# Altium schematic symbol library TS5A3359DCUT.SchLib: 1 symbol
Pins are listed as number, name and electrical type; pins without a type are passive.

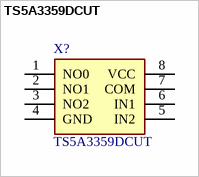
[diagram p0: symbol TS5A3359DCUT]

## TS5A3359DCUT
designator X?
Texas Instruments TS5A3359DCUT, Analogue Switch Single SP3T, 3.3 V, 5 V, 8-Pin VSSOP; Geometry.Height: 0.9mm; Mouser Part Number: 595-TS5A3359DCUT; Mouser Price/Stock: https://www.mouser.co.uk/ProductDetail/Texas-Instruments/TS5A3359DCUT?qs=0O%2FZFlpUpJWZahDSKJBJfQ%3D%3D; Manufacturer_Name: Texas Instruments; Manufacturer_Part_Number: TS5A3359DCUT; Datasheet Link: http://www.ti.com/general/docs/lit/getliterature.tsp?genericPartNumber=TS5A3359&&fileType=pdf
footprint SOP50P310X90-8N
pins: 1 NO0, 2 NO1, 3 NO2, 4 GND, 5 IN2, 6 IN1, 7 COM, 8 VCC